# Altium schematic symbol library LM317T Adjustable Regulator.SchLib: 1 symbol
Pins are listed as number, name and electrical type; pins without a type are passive.

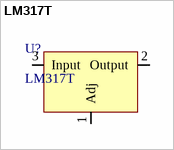
[diagram p0: symbol LM317T]

## LM317T
designator U?
Adjustable Regulator
footprint TO-220-3P
pins: 1 Adj, 2 Output, 3 Input